# EAGLE library part ADS7830 (library packages(ti))
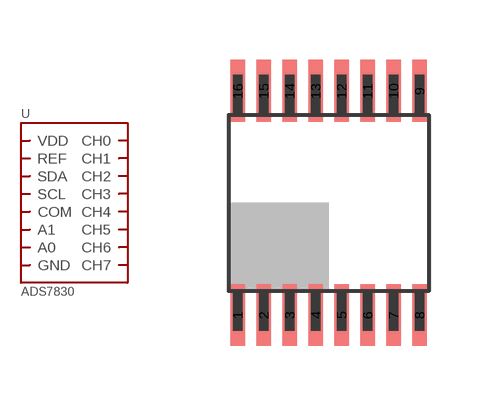
[diagram p19: symbol with the pads of PW.16; footprint PW.16]

Designator prefix -

## ADS7830.PW  [PW.16]
1  CH0
2  CH1
3  CH2
4  CH3
5  CH4
6  CH5
7  CH6
8  CH7
9  GND
10  REF
11  COM
12  A0
13  A1
14  SCL
15  SDA
16  VDD

## Footprint PW.16 (pad centres in mm)
smd 0.36 x 1.55: 1 -2.275,-2.8; 2 -1.625,-2.8; 3 -0.975,-2.8; 4 -0.325,-2.8; 5 0.325,-2.8; 6 0.975,-2.8; 7 1.625,-2.8; 8 2.275,-2.8; 9 2.275,2.8; 10 1.625,2.8; 11 0.975,2.8; 12 0.325,2.8; 13 -0.325,2.8; 14 -0.975,2.8; 15 -1.625,2.8; 16 -2.275,2.8